# EAGLE library part SIP14 (library ic-package)
Single In Line
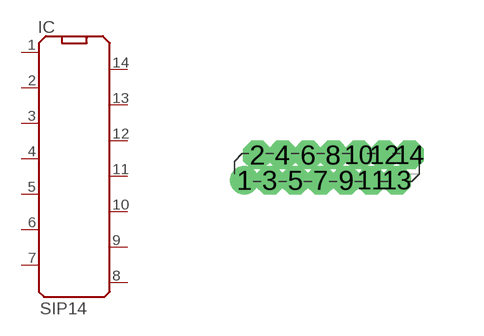
[diagram p19: symbol with the pads of ZIP14; footprint ZIP14]

Designator prefix IC

## SIP14  [ZIP14]
1  1  pas
2  2  pas
3  3  pas
4  4  pas
5  5  pas
6  6  pas
7  7  pas
8  8  pas
9  9  pas
10  10  pas
11  11  pas
12  12  pas
13  13  pas
14  14  pas

## Footprint ZIP14 (pad centres in mm)
Single In Line Socket
drill 0.203: 1 -2.223,-0.318
drill 0.203 octagon: 2 -1.905,0.318; 3 -1.587,-0.318; 4 -1.27,0.318; 5 -0.953,-0.318; 6 -0.635,0.318; 7 -0.318,-0.318; 8 0,0.318; 9 0.318,-0.318; 10 0.635,0.318; 11 0.953,-0.318; 12 1.27,0.318; 13 1.587,-0.318; 14 1.905,0.318